# EAGLE library part 613028216921 (library Wuerth_Elektronik_eiCan_Pin_&_Socked_Headers_v1.3)
WR-PHD 2.54mm Dual S. Header Bottom Entry Large, 28 Pins
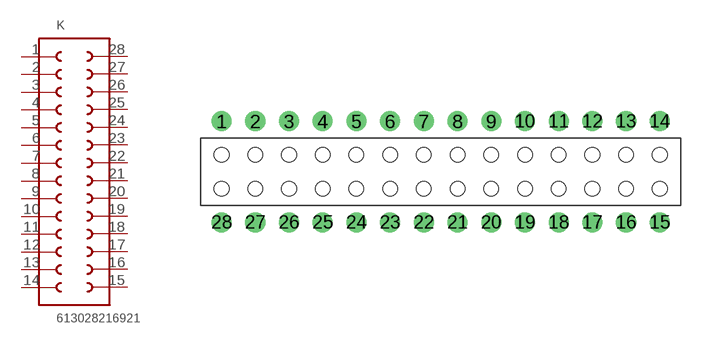
[diagram p213: symbol with the pads of 613028216921; footprint 613028216921]

Designator prefix K

## 613028216921  [613028216921]
1  1  pas
2  2  pas
3  3  pas
4  4  pas
5  5  pas
6  6  pas
7  7  pas
8  8  pas
9  9  pas
10  10  pas
11  11  pas
12  12  pas
13  13  pas
14  14  pas
15  15  pas
16  16  pas
17  17  pas
18  18  pas
19  19  pas
20  20  pas
21  21  pas
22  22  pas
23  23  pas
24  24  pas
25  25  pas
26  26  pas
27  27  pas
28  28  pas

## Footprint 613028216921 (pad centres in mm)
WR-PHD 2.54mm Dual S. Header Bottom Entry Large, 28 Pins
drill 1 round: 1 -16.51,3.81; 2 -13.97,3.81; 3 -11.43,3.81; 4 -8.89,3.81; 5 -6.35,3.81; 6 -3.81,3.81; 7 -1.27,3.81; 8 1.27,3.81; 9 3.81,3.81; 10 6.35,3.81; 11 8.89,3.81; 12 11.43,3.81; 13 13.97,3.81; 14 16.51,3.81; 15 16.51,-3.81; 16 13.97,-3.81; 17 11.43,-3.81; 18 8.89,-3.81; 19 6.35,-3.81; 20 3.81,-3.81; 21 1.27,-3.81; 22 -1.27,-3.81; 23 -3.81,-3.81; 24 -6.35,-3.81; 25 -8.89,-3.81; 26 -11.43,-3.81; 27 -13.97,-3.81; 28 -16.51,-3.81
hole 1.1 at -16.51,1.27
hole 1.1 at -13.97,1.27
hole 1.1 at -11.43,1.27
hole 1.1 at -8.89,1.27
hole 1.1 at -6.35,1.27
hole 1.1 at -3.81,1.27
hole 1.1 at -1.27,1.27
hole 1.1 at 1.27,1.27
hole 1.1 at 3.81,1.27
hole 1.1 at 6.35,1.27
hole 1.1 at 6.35,-1.27
hole 1.1 at 3.81,-1.27
hole 1.1 at 1.27,-1.27
hole 1.1 at -1.27,-1.27
hole 1.1 at -3.81,-1.27
hole 1.1 at -6.35,-1.27
hole 1.1 at -8.89,-1.27
hole 1.1 at -11.43,-1.27
hole 1.1 at -13.97,-1.27
hole 1.1 at -16.51,-1.27
hole 1.1 at 8.89,1.27
hole 1.1 at 8.89,-1.27
hole 1.1 at 11.43,1.27
hole 1.1 at 11.43,-1.27
hole 1.1 at 13.97,1.27
hole 1.1 at 13.97,-1.27
hole 1.1 at 16.51,1.27
hole 1.1 at 16.51,-1.27